# EAGLE library part DUAL-SWITCH-ON-ON (library Oles komponentbibliotek)
SWITCH ON - ON Source: http://www2.produktinfo.conrad.com/datenblaetter/700000-724999/705152-da-01-de-Subminiaturschalter_TL_36YO.pdf
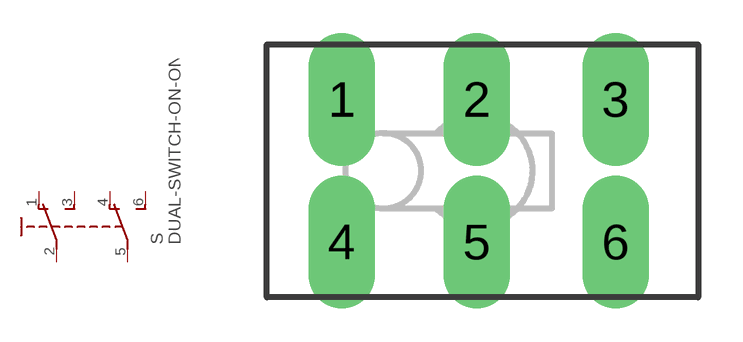
[diagram p22: symbol with the pads of 2XSWITCH; footprint 2XSWITCH]

Designator prefix S

## DUAL-SWITCH-ON-ON  [2XSWITCH]
1  O  pas
2  P  pas
3  S  pas
4  O1  pas
5  P1  pas
6  S1  pas

## Footprint 2XSWITCH (pad centres in mm)
TINY SWITCH Source: http://www2.produktinfo.conrad.com/datenblaetter/700000-724999/705152-da-01-de-Subminiaturschalter_TL_36YO.pdf
drill 1.5 pad 1.93 long: 1 -5.08,2.54; 2 -0.508,2.54; 3 4.191,2.54; 4 -5.08,-2.286; 5 -0.508,-2.286; 6 4.191,-2.286